# Altium schematic symbol library ISD2360SYI.SchLib: 1 symbol
Pins are listed as number, name and electrical type; pins without a type are passive.

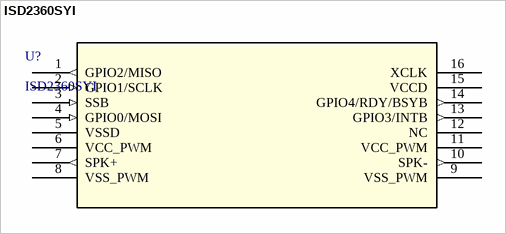
[diagram p0: symbol ISD2360SYI]

## ISD2360SYI
designator U?
Description; Manufacturer_Name: Nuvoton; Copyright: Copyright (C) 2025 Ultra Librarian. All rights reserved.; Manufacturer_Part_Number: ISD2360SYI; RefDes: RefDes; Type: Type; Supplier 1: DigiKey; Supplier Part Number 1: ISD2360SYI-ND
footprint ISD2360SYI_NUV
pins: 1 GPIO2/MISO (out), 2 GPIO1/SCLK (in), 3 SSB (in), 4 GPIO0/MOSI (in), 5 VSSD (power), 6 VCC_PWM (power), 7 SPK+ (out), 8 VSS_PWM (power), 9 VSS_PWM (power), 10 SPK- (out), 11 VCC_PWM (power), 12 NC, 13 GPIO3/INTB (out), 14 GPIO4/RDY/BSYB (out), 15 VCCD (power), 16 XCLK